# EAGLE library part ADF4351 (library ADF4351)
IC SYNTH PLL VCO 32LFCSP Check prices <https://pricing.snapeda.com/parts/ADF4351/Analog%20Devices/view-part?ref=eda>
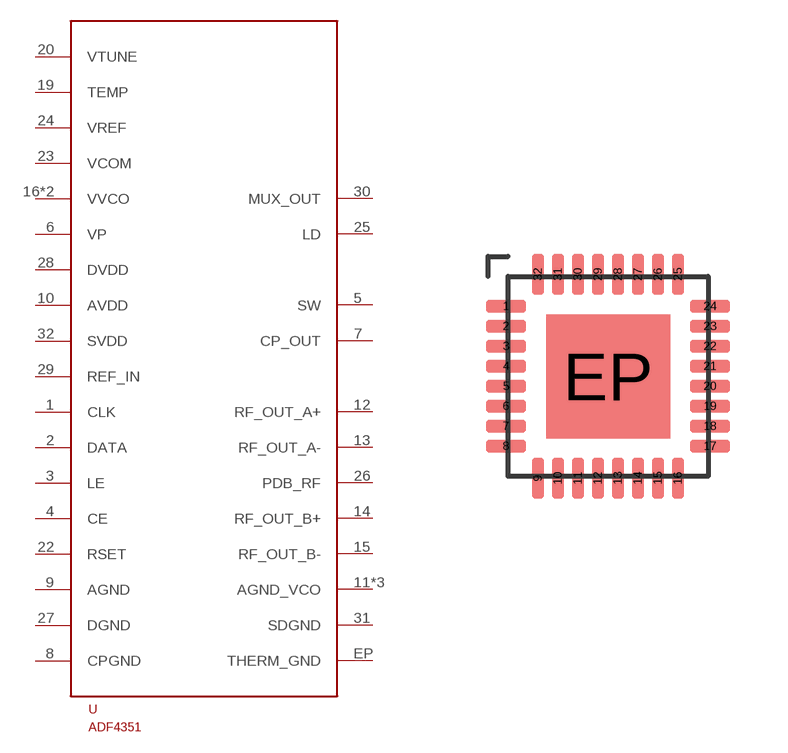
[diagram p0: symbol with the pads of ADF4351; footprint ADF4351]

Designator prefix U

## ADF4351 (AVAILABILITY: Bad; DESCRIPTION: IC SYNTH PLL VCO 32LFCSP; MF: Analog Devices; MP: ADF4351; PACKAGE: LFCSP-32 Analog Devices; PRICE: None)  [ADF4351]
1  CLK
2  DATA
3  LE
4  CE
5  SW
6  VP
7  CP_OUT
8  CPGND
9  AGND
10  AVDD
11  AGND_VCO
12  RF_OUT_A+
13  RF_OUT_A-
14  RF_OUT_B+
15  RF_OUT_B-
16  VVCO
17  VVCO
18  AGND_VCO
19  TEMP
20  VTUNE
21  AGND_VCO
22  RSET
23  VCOM
24  VREF
25  LD
26  PDB_RF
27  DGND
28  DVDD
29  REF_IN
30  MUX_OUT
31  SDGND
32  SVDD
EP  THERM_GND

## Footprint ADF4351 (pad centres in mm)
smd 1 x 0.3: 1 -2.55,1.75; 2 -2.55,1.25; 3 -2.55,0.75; 4 -2.55,0.25; 5 -2.55,-0.25; 6 -2.55,-0.75; 7 -2.55,-1.25; 8 -2.55,-1.75; 17 2.55,-1.75; 18 2.55,-1.25; 19 2.55,-0.75; 20 2.55,-0.25; 21 2.55,0.25; 22 2.55,0.75; 23 2.55,1.25; 24 2.55,1.75
smd 0.3 x 1: 9 -1.75,-2.55; 10 -1.25,-2.55; 11 -0.75,-2.55; 12 -0.25,-2.55; 13 0.25,-2.55; 14 0.75,-2.55; 15 1.25,-2.55; 16 1.75,-2.55; 25 1.75,2.55; 26 1.25,2.55; 27 0.75,2.55; 28 0.25,2.55; 29 -0.25,2.55; 30 -0.75,2.55; 31 -1.25,2.55; 32 -1.75,2.55
smd 3.1 x 3.1: EP 0,0